# EAGLE library part LPC1114FA44/301 (library NXP_By_element14_Batch_1)
32-bit ARM Cortex-M0 microcontroller
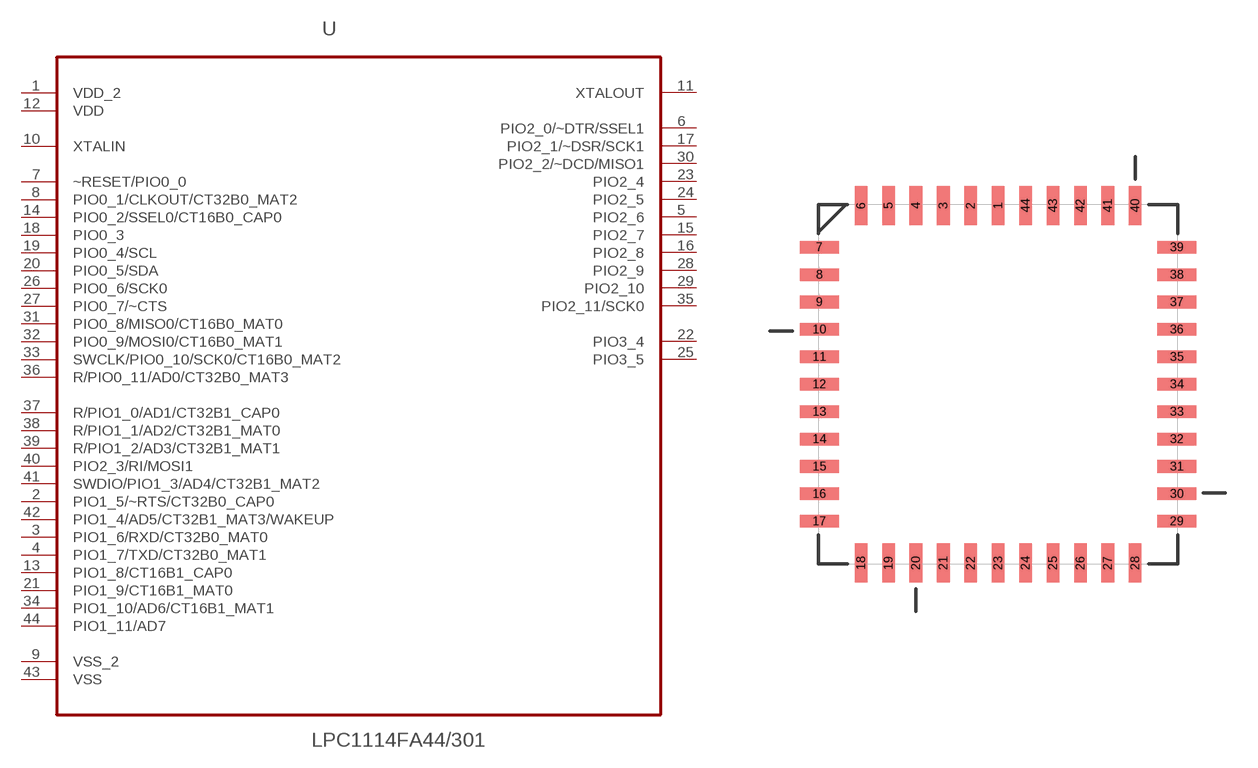
[diagram p316: symbol with the pads of PLCC127P1752X1752X457-44N; footprint PLCC127P1752X1752X457-44N]

Designator prefix U

## LPC1114FA44/301 (MPN: LPC1114FA44/301; OC_FARNELL: -; OC_NEWARK: 99R2718; P1I: o; PACKAGE: PLCC-44; SUPPLIER: NXP)  [PLCC127P1752X1752X457-44N]
1  VDD_2  pwr
2  PIO1_5/~RTS/CT32B0_CAP0
3  PIO1_6/RXD/CT32B0_MAT0
4  PIO1_7/TXD/CT32B0_MAT1
5  PIO2_6
6  PIO2_0/~DTR/SSEL1
7  ~RESET/PIO0_0  in
8  PIO0_1/CLKOUT/CT32B0_MAT2
9  VSS_2  pas
10  XTALIN  in
11  XTALOUT  out
12  VDD  pwr
13  PIO1_8/CT16B1_CAP0
14  PIO0_2/SSEL0/CT16B0_CAP0
15  PIO2_7
16  PIO2_8
17  PIO2_1/~DSR/SCK1
18  PIO0_3
19  PIO0_4/SCL
20  PIO0_5/SDA
21  PIO1_9/CT16B1_MAT0
22  PIO3_4
23  PIO2_4
24  PIO2_5
25  PIO3_5
26  PIO0_6/SCK0
27  PIO0_7/~CTS
28  PIO2_9
29  PIO2_10
30  PIO2_2/~DCD/MISO1
31  PIO0_8/MISO0/CT16B0_MAT0
32  PIO0_9/MOSI0/CT16B0_MAT1
33  SWCLK/PIO0_10/SCK0/CT16B0_MAT2
34  PIO1_10/AD6/CT16B1_MAT1
35  PIO2_11/SCK0
36  R/PIO0_11/AD0/CT32B0_MAT3
37  R/PIO1_0/AD1/CT32B1_CAP0
38  R/PIO1_1/AD2/CT32B1_MAT0
39  R/PIO1_2/AD3/CT32B1_MAT1
40  PIO2_3/RI/MOSI1
41  SWDIO/PIO1_3/AD4/CT32B1_MAT2
42  PIO1_4/AD5/CT32B1_MAT3/WAKEUP
43  VSS  pas
44  PIO1_11/AD7

## Footprint PLCC127P1752X1752X457-44N (pad centres in mm)
smd 0.584 x 1.803: 1 0,8.28; 2 -1.27,8.28; 3 -2.54,8.28; 4 -3.81,8.28; 5 -5.08,8.28; 6 -6.35,8.28; 18 -6.35,-8.28; 19 -5.08,-8.28; 20 -3.81,-8.28; 21 -2.54,-8.28; 22 -1.27,-8.28; 23 0,-8.28; 24 1.27,-8.28; 25 2.54,-8.28; 26 3.81,-8.28; 27 5.08,-8.28; 28 6.35,-8.28; 40 6.35,8.28; 41 5.08,8.28; 42 3.81,8.28; 43 2.54,8.28; 44 1.27,8.28
smd 1.803 x 0.584: 7 -8.28,6.35; 8 -8.28,5.08; 9 -8.28,3.81; 10 -8.28,2.54; 11 -8.28,1.27; 12 -8.28,0; 13 -8.28,-1.27; 14 -8.28,-2.54; 15 -8.28,-3.81; 16 -8.28,-5.08; 17 -8.28,-6.35; 29 8.28,-6.35; 30 8.28,-5.08; 31 8.28,-3.81; 32 8.28,-2.54; 33 8.28,-1.27; 34 8.28,0; 35 8.28,1.27; 36 8.28,2.54; 37 8.28,3.81; 38 8.28,5.08; 39 8.28,6.35